# EAGLE library part ZIGBIT-AMP (library zigbit)
ZigBitTM Amp OEM Modules - ZDM-A1281-PN/PN0 (MNZB-A24-UFL/U0)
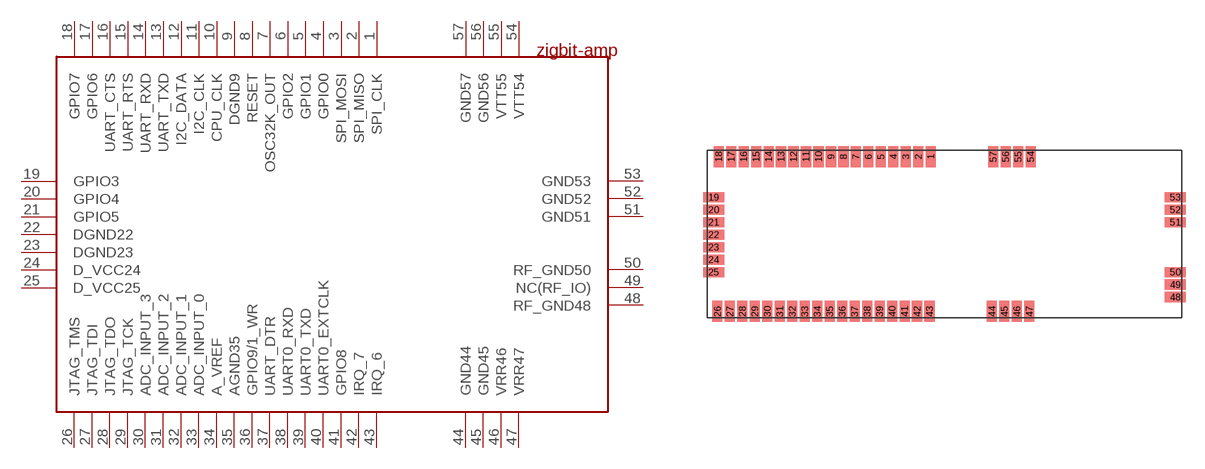
[diagram p0: symbol with the pads of BOARD; footprint BOARD]

Designator prefix -

## ZIGBIT-AMP  [BOARD]
1  SPI_CLK
2  SPI_MISO
3  SPI_MOSI
4  GPIO0
5  GPIO1
6  GPIO2
7  OSC32K_OUT
8  RESET
9  DGND9
10  CPU_CLK
11  I2C_CLK
12  I2C_DATA
13  UART_TXD
14  UART_RXD
15  UART_RTS
16  UART_CTS
17  GPIO6
18  GPIO7
19  GPIO3
20  GPIO4
21  GPIO5
22  DGND22
23  DGND23
24  D_VCC24
25  D_VCC25
26  JTAG_TMS
27  JTAG_TDI
28  JTAG_TDO
29  JTAG_TCK
30  ADC_INPUT_3
31  ADC_INPUT_2
32  ADC_INPUT_1
33  ADC_INPUT_0
34  A_VREF
35  AGND35
36  GPIO9/1_WR
37  UART_DTR
38  UART0_RXD
39  UART0_TXD
40  UART0_EXTCLK
41  GPIO8
42  IRQ_7
43  IRQ_6
44  GND44
45  GND45
46  VRR46
47  VRR47
48  RF_GND48
49  NC(RF_IO)
50  RF_GND50
51  GND51
52  GND52
53  GND53
54  VTT54
55  VTT55
56  GND56
57  GND57

## Footprint BOARD (pad centres in mm)
smd 0.813 x 1.676: 1 17.9,-0.5; 2 16.9,-0.5; 3 15.9,-0.5; 4 14.9,-0.5; 5 13.9,-0.5; 6 12.9,-0.5; 7 11.9,-0.5; 8 10.9,-0.5; 9 9.9,-0.5; 10 8.9,-0.5; 11 7.9,-0.5; 12 6.9,-0.5; 13 5.9,-0.5; 14 4.9,-0.5; 15 3.9,-0.5; 16 2.9,-0.5; 17 1.9,-0.5; 18 0.9,-0.5; 26 0.8,-12.9; 27 1.8,-12.9; 28 2.8,-12.9; 29 3.8,-12.9; 30 4.8,-12.9; 31 5.8,-12.9; 32 6.8,-12.9; 33 7.8,-12.9; 34 8.8,-12.9; 35 9.8,-12.9; 36 10.8,-12.9; 37 11.8,-12.9; 38 12.8,-12.9; 39 13.8,-12.9; 40 14.8,-12.9; 41 15.8,-12.9; 42 16.8,-12.9; 43 17.8,-12.9; 44 22.8,-12.9; 45 23.8,-12.9; 46 24.8,-12.9; 47 25.8,-12.9; 54 25.9,-0.5; 55 24.9,-0.5; 56 23.9,-0.5; 57 22.9,-0.5
smd 1.676 x 0.813: 19 0.5,-3.75; 20 0.5,-4.75; 21 0.5,-5.75; 22 0.5,-6.75; 23 0.5,-7.75; 24 0.5,-8.75; 25 0.5,-9.75; 48 37.5,-11.75; 49 37.5,-10.75; 50 37.5,-9.75; 51 37.5,-5.75; 52 37.5,-4.75; 53 37.5,-3.75